# EAGLE library part U217B (library telefunken)
TRIAC CONTROL CIRCUIT
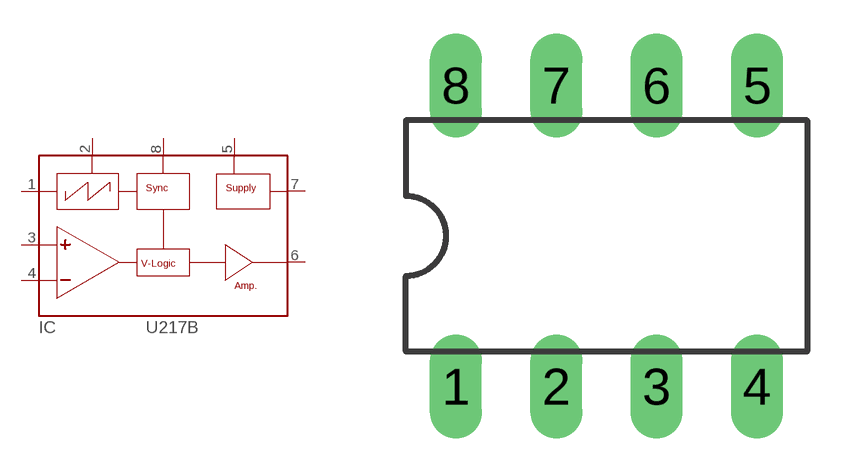
[diagram p0: symbol with the pads of DIL08; footprint DIL08]

Designator prefix IC

## U217B (OC_FARNELL: unknown; OC_NEWARK: unknown)  [DIL08]
1  RI
2  RO
3  +
4  -
5  VS
6  PO
7  VN
8  SY

## Footprint DIL08 (pad centres in mm)
Dual In Line Package
drill 0.813 long: 1 -3.81,-3.81; 2 -1.27,-3.81; 3 1.27,-3.81; 4 3.81,-3.81; 5 3.81,3.81; 6 1.27,3.81; 7 -1.27,3.81; 8 -3.81,3.81